# Altium schematic symbol library relay.SchLib: 4 symbols
Pins are listed as number, name and electrical type; pins without a type are passive.

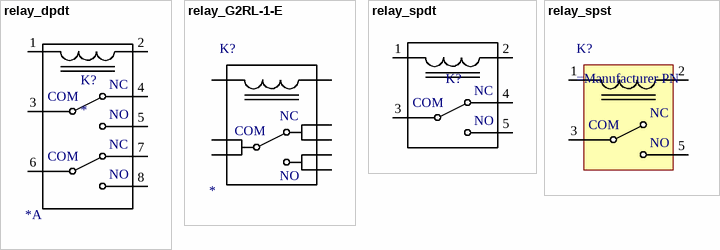
[diagram p0: symbols relay_dpdt to relay_spst]

## relay_dpdt
designator K?  Contact Current Rating: *A
DPDT Relay; Latching: *; Turn-on Voltage: *; Turn-off Voltage: *
footprint RELAY_SHRACK_RT2
pins: 1, 2, 3 COM, 4 NC, 5 NO, 6 COM, 7 NC, 8 NO

## relay_G2RL-1-E
designator K?
Manufacturer PN: *
pins: 1, 2, 3, 4, 5, 6, 7, 8
text: NC; COM; NO

## relay_spdt
designator K?  (value not drawn)
SPDT Relay; Turn-on Voltage: *V; Contact Current Rating: *A; Turn-off Voltage: *V; Latching: *
footprint RELAY_PAN_CB
pins: 1, 2, 3 COM, 4 NC, 5 NO

## relay_spst
designator K?
SPST Relay
pins: 1, 2, 3 COM, 5 NO
text: NC